# Altium footprint library Indications.PcbLib: 4 footprints
Each footprint in its own frame and in the unit in brackets; x right, y up, seen from the top. Pads: shape width x height; smd on the part's side, far side on the other; paste and mask are expansions set on the pad; w line width, h text height; cw(c..) or ccw(c..) is an arc to the next point about the centre after c.
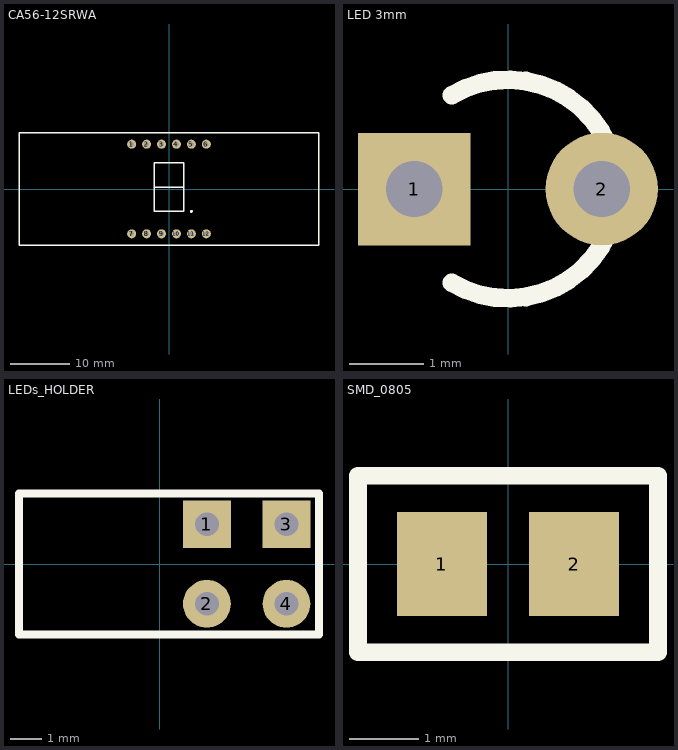
[diagram p0: the footprints below, top view; thin cyan lines are the x and y axes]

## CA56-12SRWA [mil]
pads (12):
  round 60 hole 31.5: 1(-250,300) 2(-150,300) 3(-50,300) 4(50,300) 5(150,300) 6(250,300) 7(-250,-300) 8(-150,-300) 9(-50,-300) 10(50,-300) 11(150,-300) 12(250,-300)
Top Overlay:
  circle w10: c150,-150 r5
  lines w10: -100,12.5 100,12.5 ; -1003.94,-375.98 1003.94,-375.98 1003.94,375.98 -1003.94,375.98 -1003.94,-375.98 ; -100,-150 100,-150 100,175 -100,175 -100,-150

## LED 3mm [mil]
pads (2):
  rect 60x60 hole 30: 1(-50,0)
  round 60 hole 30: 2(50,0)
Top Overlay:
  lines w10: -30,-50 ccw(c0,0) -30,50

## LEDs_HOLDER [mil]
pads (4):
  rect 60x60 hole 30: 1(59.06,50) 3(159.06,50)
  round 60 hole 30: 2(59.06,-50) 4(159.06,-50)
Top Overlay:
  lines w10: -177.17,-88.58 200,-88.58 200,88.58 -177.17,88.58 -177.17,-88.58

## SMD_0805 [mm]
pads (2):
  rect 1.3x1.5 smd: 1(-0.95,0) 2(0.95,0)
Top Overlay:
  lines w0.254: -2.159,-1.27 -2.159,1.27 -1.905,1.27 2.159,1.27 2.159,-1.27 -2.159,-1.27